# Altium schematic symbol library SHTC3.SchLib: 1 symbol
Pins are listed as number, name and electrical type; pins without a type are passive.

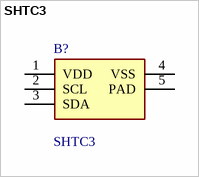
[diagram p0: symbol SHTC3]

## SHTC3
designator B?
Humidity and Temperature Sensor IC; Manufacturer_Name: Sensirion; Geometry.Height: 0.75mm; Mouser Part Number: 403-SHTC3; Mouser Price/Stock: https://www.mouser.com/Search/Refine.aspx?Keyword=403-SHTC3; Manufacturer_Part_Number: SHTC3; Datasheet Link: https://componentsearchengine.com//SHTC3.pdf
footprint SHTC3
pins: 1 VDD, 2 SCL, 3 SDA, 4 VSS, 5 PAD